# EAGLE library part KLEMME_2-3_LED (library e-klemmen)
Dreistock-Initiatoren-Klemme mit LED
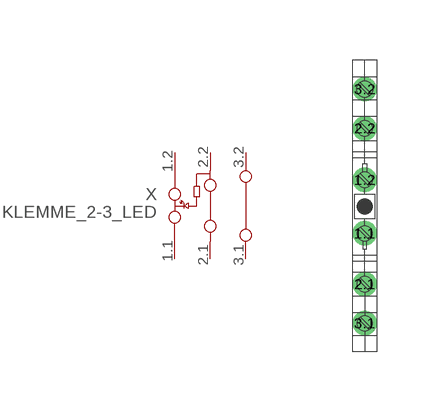
[diagram p12: symbol with the pads of KLEMME_2-3_LED; footprint KLEMME_2-3_LED]

Designator prefix X

## KLEMME_2-3_LED  [KLEMME_2-3_LED]
1.1  1.1  pas
1.2  1.2  pas
2.1  2.1  pas
2.2  2.2  pas
3.1  3.1  pas
3.2  3.2  pas

## Footprint KLEMME_2-3_LED (pad centres in mm)
Dreistock-Initiatoren-Klemme, Querschnitt: 0,2 - 2,5 mm², AWG: 30 - 14, Breite: 6,2 mm, Farbe: grau Quelle: http://download.phoenixcontact.de .. c2715814.dxf
drill 0.1 pad 0.2 round: 1.1 0,-0.67; 1.2 0,0.67; 2.1 0,-1.94; 2.2 0,1.96; 3.1 0,-2.92; 3.2 0,2.94